# EAGLE library part AFE4490 (library James_custom)
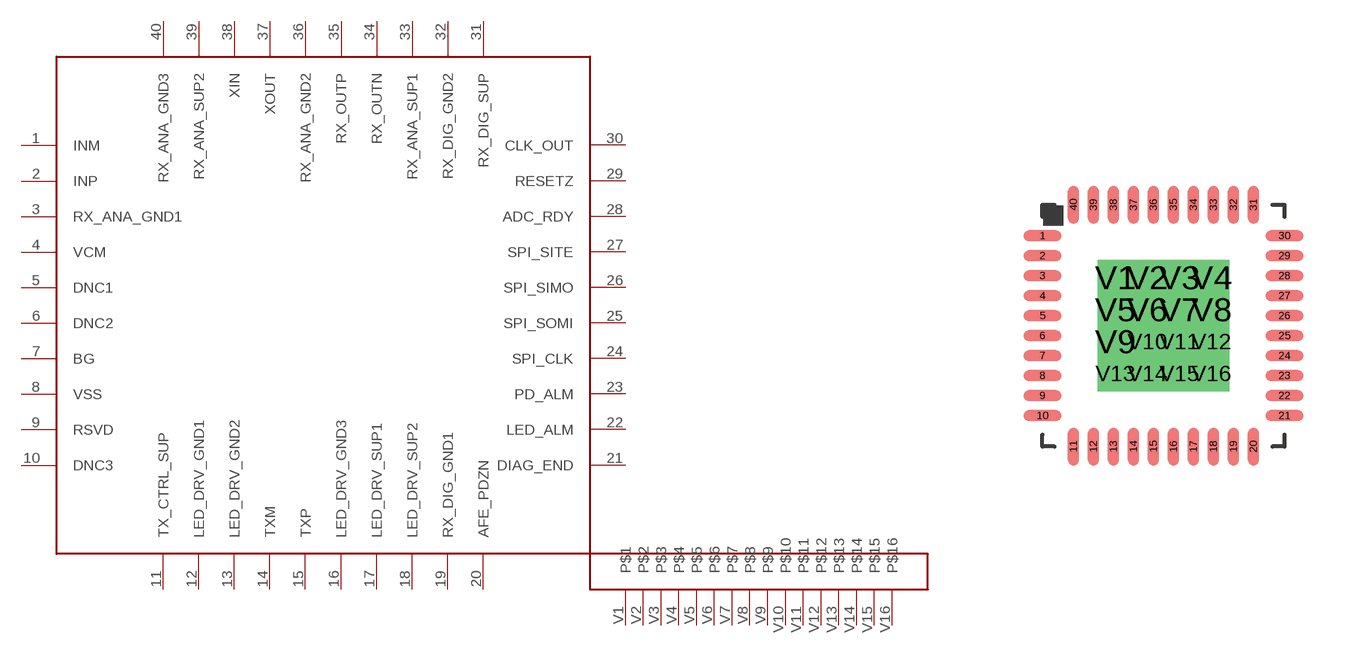
[diagram p29: symbol with the pads of QFN40-6X6_SM; footprint QFN40-6X6_SM]

Designator prefix -

## AFE4490  [QFN40-6X6_SM]
1  INM
2  INP
3  RX_ANA_GND1
4  VCM
5  DNC1
6  DNC2
7  BG
8  VSS
9  RSVD
10  DNC3
11  TX_CTRL_SUP
12  LED_DRV_GND1
13  LED_DRV_GND2
14  TXM
15  TXP
16  LED_DRV_GND3
17  LED_DRV_SUP1
18  LED_DRV_SUP2
19  RX_DIG_GND1
20  AFE_PDZN
21  DIAG_END
22  LED_ALM
23  PD_ALM
24  SPI_CLK
25  SPI_SOMI
26  SPI_SIMO
27  SPI_SITE
28  ADC_RDY
29  RESETZ
30  CLK_OUT
31  RX_DIG_SUP
32  RX_DIG_GND2
33  RX_ANA_SUP1
34  RX_OUTN
35  RX_OUTP
36  RX_ANA_GND2
37  XOUT
38  XIN
39  RX_ANA_SUP2
40  RX_ANA_GND3
V1  P$1
V2  P$2
V3  P$3
V4  P$4
V5  P$5
V6  P$6
V7  P$7
V8  P$8
V9  P$9
V10  P$10
V11  P$11
V12  P$12
V13  P$13
V14  P$14
V15  P$15
V16  P$16

## Footprint QFN40-6X6_SM (pad centres in mm)
smd 0.95 x 0.28: 1 -3.025,2.25; 2 -3.025,1.75; 3 -3.025,1.25; 4 -3.025,0.75; 5 -3.025,0.25; 6 -3.025,-0.25; 7 -3.025,-0.75; 8 -3.025,-1.25; 9 -3.025,-1.75; 10 -3.025,-2.25; 21 3.025,-2.25; 22 3.025,-1.75; 23 3.025,-1.25; 24 3.025,-0.75; 25 3.025,-0.25; 26 3.025,0.25; 27 3.025,0.75; 28 3.025,1.25; 29 3.025,1.75; 30 3.025,2.25
smd 0.28 x 0.95: 11 -2.25,-3.025; 12 -1.75,-3.025; 13 -1.25,-3.025; 14 -0.75,-3.025; 15 -0.25,-3.025; 16 0.25,-3.025; 17 0.75,-3.025; 18 1.25,-3.025; 19 1.75,-3.025; 20 2.25,-3.025; 31 2.25,3.025; 32 1.75,3.025; 33 1.25,3.025; 34 0.75,3.025; 35 0.25,3.025; 36 -0.25,3.025; 37 -0.75,3.025; 38 -1.25,3.025; 39 -1.75,3.025; 40 -2.25,3.025
drill 0.381 pad 0.8 square: V1 -1.2,1.2; V2 -0.4,1.2; V3 0.4,1.2; V4 1.2,1.2; V5 -1.2,0.4; V6 -0.4,0.4; V7 0.4,0.4; V8 1.2,0.4; V9 -1.2,-0.4; V10 -0.4,-0.4; V11 0.4,-0.4; V12 1.2,-0.4; V13 -1.2,-1.2; V14 -0.4,-1.2; V15 0.4,-1.2; V16 1.2,-1.2